# EAGLE library part STM32F042K6 (library AP_quad)
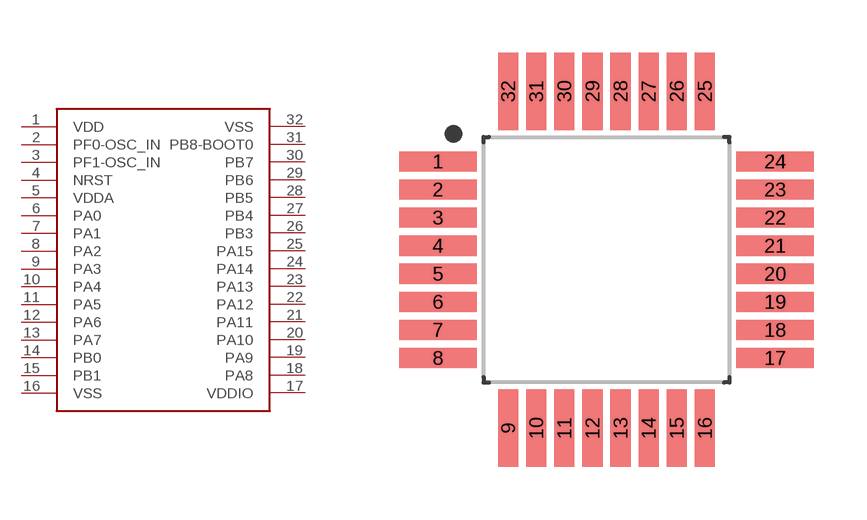
[diagram p3: symbol with the pads of QFP80P900X900X120-32; footprint QFP80P900X900X120-32]

Designator prefix -

## STM32F042K6LQFP32  [QFP80P900X900X120-32]
1  VDD
2  PF0-OSC_IN
3  PF1-OSC_IN
4  NRST
5  VDDA
6  PA0
7  PA1
8  PA2
9  PA3
10  PA4
11  PA5
12  PA6
13  PA7
14  PB0
15  PB1
16  VSS
17  VDDIO
18  PA8
19  PA9
20  PA10
21  PA11
22  PA12
23  PA13
24  PA14
25  PA15
26  PB3
27  PB4
28  PB5
29  PB6
30  PB7
31  PB8-BOOT0
32  VSS

## Footprint QFP80P900X900X120-32 (pad centres in mm)
32-QFP, 0.80 mm pitch, 9.00 mm span, 6.65 X 6.65 X 1.20 mm body 32-pin QFP package with 0.80 mm pitch, 9.00 mm lead span1 X 9.00 mm lead span2 with body size 6.65 X 6.65 X 1.20 mm
smd 2.204 x 0.572: 1 -4.8,2.8; 2 -4.8,2; 3 -4.8,1.2; 4 -4.8,0.4; 5 -4.8,-0.4; 6 -4.8,-1.2; 7 -4.8,-2; 8 -4.8,-2.8; 17 4.8,-2.8; 18 4.8,-2; 19 4.8,-1.2; 20 4.8,-0.4; 21 4.8,0.4; 22 4.8,1.2; 23 4.8,2; 24 4.8,2.8
smd 0.572 x 2.204: 9 -2.8,-4.8; 10 -2,-4.8; 11 -1.2,-4.8; 12 -0.4,-4.8; 13 0.4,-4.8; 14 1.2,-4.8; 15 2,-4.8; 16 2.8,-4.8; 25 2.8,4.8; 26 2,4.8; 27 1.2,4.8; 28 0.4,4.8; 29 -0.4,4.8; 30 -1.2,4.8; 31 -2,4.8; 32 -2.8,4.8